# Altium footprint library 15_45_3240.pcblib: 1 footprints
Each footprint in its own frame and in the unit in brackets; x right, y up, seen from the top. Pads: shape width x height; smd on the part's side, far side on the other; paste and mask are expansions set on the pad; w line width, h text height; cw(c..) or ccw(c..) is an arc to the next point about the centre after c.
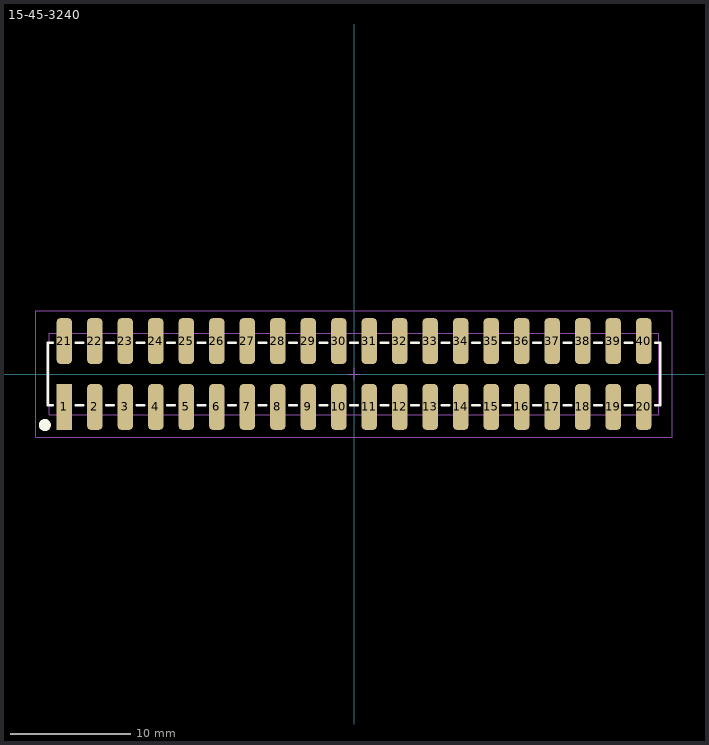
[diagram p0: the footprint, top view; thin cyan lines are the x and y axes]

## 15-45-3240 [mm] "C-Grid 40 Pins Connector, Pitch 2,54mm, High Profile, Dual Row, V/A Type"
height 9.35
pads (40):
  rect 1.27x3.81 smd paste+0: 1(-24.13,-2.745)
  rrect50% 1.27x3.81 smd: 2(-21.59,-2.745) 3(-19.05,-2.745) 4(-16.51,-2.745) 5(-13.97,-2.745) 6(-11.43,-2.745) 7(-8.89,-2.745) 8(-6.35,-2.745) 9(-3.81,-2.745) 10(-1.27,-2.745) 11(1.27,-2.745) 12(3.81,-2.745) 13(6.35,-2.745) 14(8.89,-2.745) 15(11.43,-2.745) 16(13.97,-2.745) 17(16.51,-2.745) 18(19.05,-2.745) 19(21.59,-2.745) 20(24.13,-2.745) 21(-24.13,2.745) 22(-21.59,2.745) 23(-19.05,2.745) 24(-16.51,2.745) 25(-13.97,2.745) 26(-11.43,2.745) 27(-8.89,2.745) 28(-6.35,2.745) 29(-3.81,2.745) 30(-1.27,2.745) 31(1.27,2.745) 32(3.81,2.745) 33(6.35,2.745) 34(8.89,2.745) 35(11.43,2.745) 36(13.97,2.745) 37(16.51,2.745) 38(19.05,2.745) 39(21.59,2.745) 40(24.13,2.745)
Top Overlay:
  circle w0.5: c-25.75,-4.25 r0.25
  lines w0.2: -25.1,-2.6 -25.5,-2.6 -25.5,2.6 -25.1,2.6 ; -23.16,-2.6 -22.56,-2.6 ; -23.16,2.6 -22.56,2.6 ; -20.62,-2.6 -20.02,-2.6 ; -20.62,2.6 -20.02,2.6 ; -18.08,-2.6 -17.48,-2.6 ; -18.08,2.6 -17.48,2.6 ; -15.54,-2.6 -14.94,-2.6 ; -15.54,2.6 -14.94,2.6 ; -13,-2.6 -12.4,-2.6 ; -13,2.6 -12.4,2.6 ; -10.46,-2.6 -9.86,-2.6 ; -10.46,2.6 -9.86,2.6 ; -7.92,-2.6 -7.32,-2.6 ; -7.92,2.6 -7.32,2.6 ; -5.38,-2.6 -4.78,-2.6 ; -5.38,2.6 -4.78,2.6 ; -2.84,-2.6 -2.24,-2.6 ; -2.84,2.6 -2.24,2.6 ; -0.3,-2.6 0.3,-2.6 ; -0.3,2.6 0.3,2.6 ; 2.24,-2.6 2.84,-2.6 ; 2.24,2.6 2.84,2.6 ; 4.78,-2.6 5.38,-2.6 ; 4.78,2.6 5.38,2.6 ; 7.32,-2.6 7.92,-2.6 ; 7.32,2.6 7.92,2.6 ; 9.86,-2.6 10.46,-2.6 ; 9.86,2.6 10.46,2.6 ; 12.4,-2.6 13,-2.6 ; 12.4,2.6 13,2.6 ; 14.94,-2.6 15.54,-2.6 ; 14.94,2.6 15.54,2.6 ; 17.48,-2.6 18.08,-2.6 ; 17.48,2.6 18.08,2.6 ; 20.02,-2.6 20.62,-2.6 ; 20.02,2.6 20.62,2.6 ; 22.56,-2.6 23.16,-2.6 ; 22.56,2.6 23.16,2.6 ; 25.1,-2.6 25.5,-2.6 25.5,2.6 25.1,2.6
Top Comment:
  text ".Comment" at 1,6 h1.2
Top Designator:
  text ".Designator" at -0.5,6 h1.2
Top Component Outline:
  lines w0.1: -25.4,-3.4 25.4,-3.4 25.4,3.4 -25.4,3.4 -25.4,-3.4
Top Courtyard (Mech15):
  lines w0.05: -26.5,-5.25 26.5,-5.25 26.5,5.25 -26.5,5.25 -26.5,-5.25
  lines w0.1: -0.5,0 0.5,0 ; 0,-0.5 0,0.5
3D body "15453240.sldprt": height 9.35, standoff 0, extent -25.387,-3.378 25.387,3.378